# Altium schematic symbol library elems.SchLib: 43 symbols
Pins are listed as number, name and electrical type; pins without a type are passive.

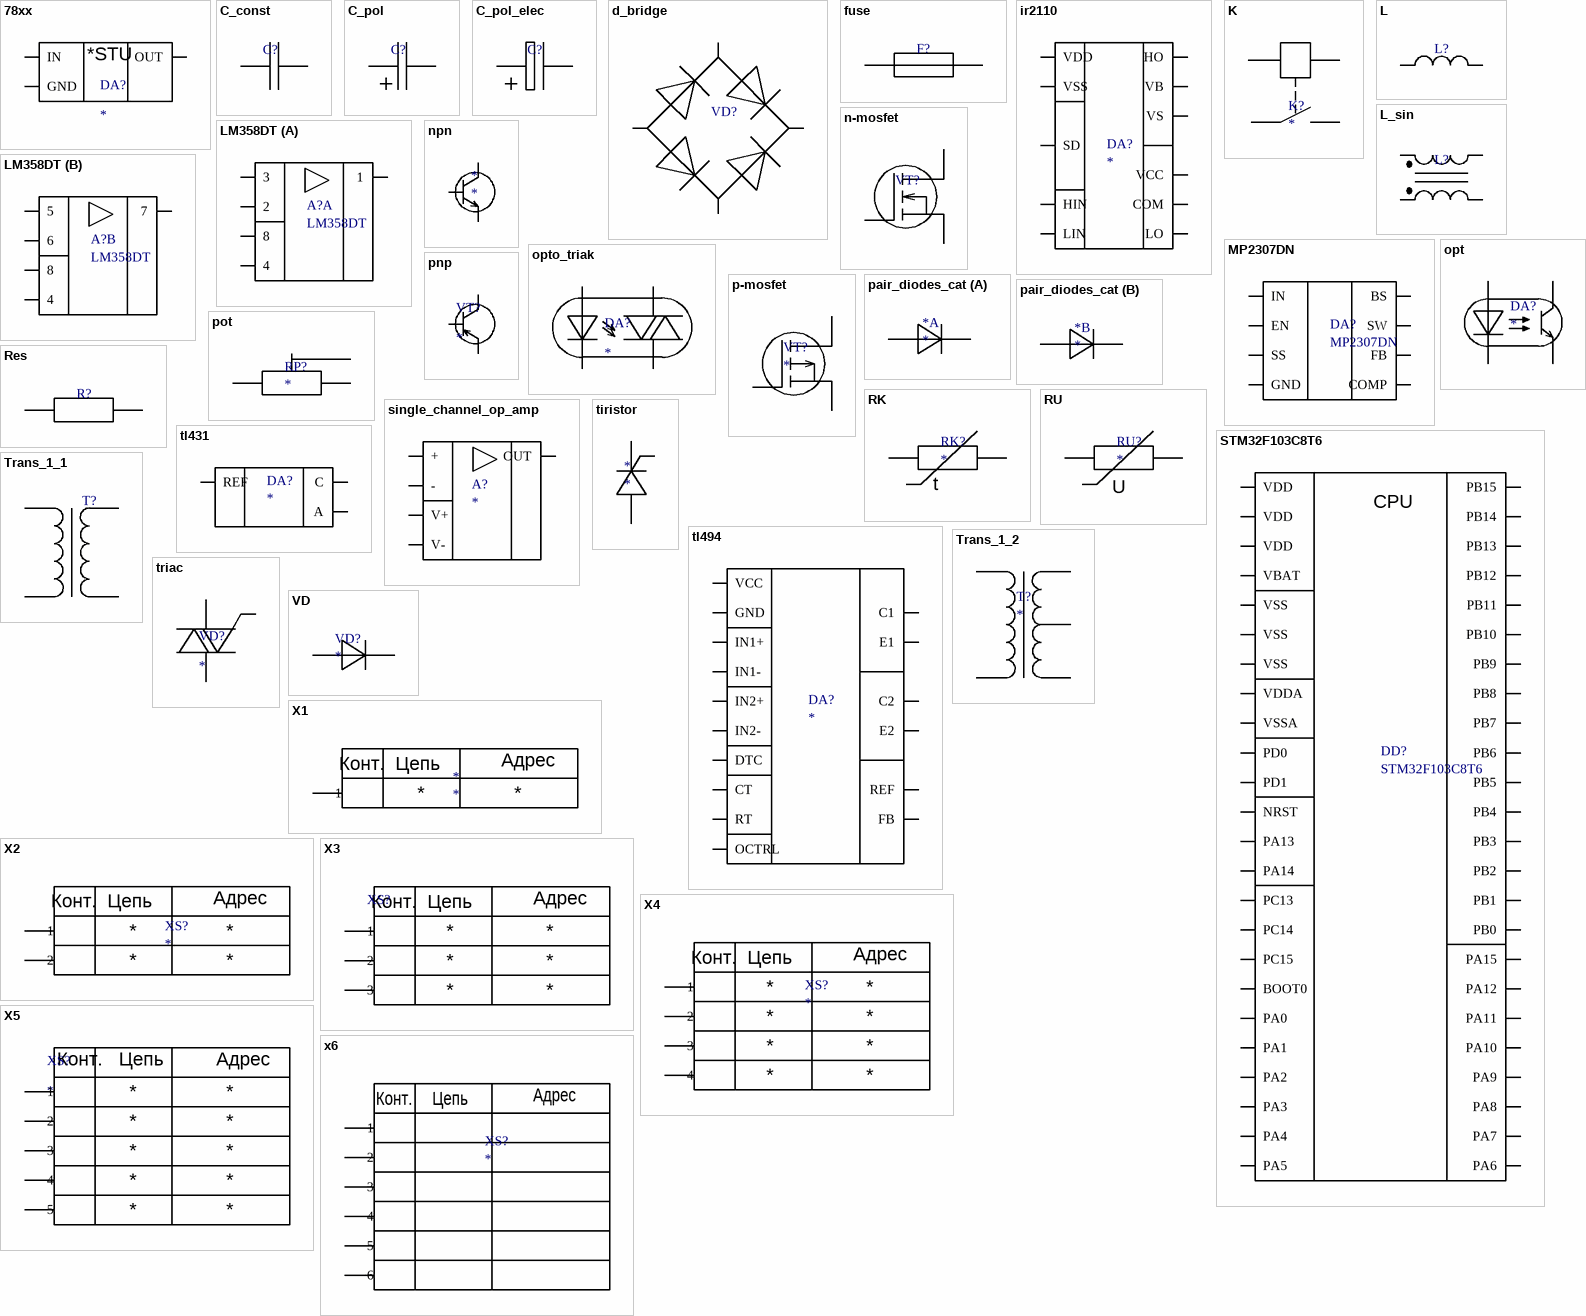
[diagram p0: symbols 78xx to x6]

## 78xx
designator DA?
pins: 1 IN, 2 OUT, 3 GND
text: *STU

## C_const
designator C?  (value not drawn)
pins: 1, 2

## C_pol
designator C?  (value not drawn)
pins: 1, 2

## C_pol_elec
designator C?  (value not drawn)
pins: 1, 2

## d_bridge
designator VD?  (value not drawn)
pins: 1, 2, 3, 4

## fuse
designator F?  (value not drawn)
pins: 1, 2

## ir2110
designator DA?
pins: 1 LO, 2 COM, 3 VCC, 6 VS, 7 VB, 8 HO, 11 VDD, 12 HIN, 13 SD, 14 LIN, 15 VSS

## K
designator K?
pins: 1, 2, 3, 4

## L
designator L?  (value not drawn)
pins: 1, 2

## L_sin
designator L?  (value not drawn)
pins: 1, 2, 3, 4

## LM358DT
designator A?
part A pins: 1, 2, 3, 4, 8
part B pins: 4, 5, 6, 7, 8

## MP2307DN
designator DA?
pins: 1 BS, 2 IN, 3 SW, 4 GND, 5 FB, 6 COMP, 7 EN, 8 SS

## n-mosfet
designator VT?  (value not drawn)
pins: 1, 2, 3

## npn
designator *
pins: 1 b, 2 c, 3 e

## opt
designator DA?
pins: 1, 2, 3, 4

## opto_triak
designator DA?
pins: 1, 2, 3, 4

## p-mosfet
designator VT?
pins: 1, 2, 3

## pair_diodes_cat
designator *
part A pins: 1 A1, 2 C
part B pins: 3 A2, C 2

## pnp
designator VT?
pins: 1 b, 2 c, 3 e

## pot
designator RP?
pins: 1, 2, 3

## Res
designator R?  (value not drawn)
pins: 1, 2 6

## RK
designator RK?
pins: 1, 2
text: t

## RU
designator RU?
pins: 1, 2
text: U

## single_channel_op_amp
designator A?
pins: 1 +, 2 V-, 3 -, 4 OUT, 5 V+

## STM32F103C8T6
designator DD?
pins: 1 VBAT, 2 PC13, 3 PC14, 4 PC15, 5 PD0, 6 PD1, 7 NRST, 8 VSSA, 9 VDDA, 10 PA0, 11 PA1, 12 PA2, 13 PA3, 14 PA4, 15 PA5, 16 PA6, 17 PA7, 18 PB0, 19 PB1, 20 PB2, 21 PB10, 22 PB11, 23 VSS, 24 VDD, 25 PB12, 26 PB13, 27 PB14, 28 PB15, 29 PA8, 30 PA9, 31 PA10, 32 PA11, 33 PA12, 34 PA13, 35 VSS, 36 VDD, 37 PA14, 38 PA15, 39 PB3, 40 PB4, 41 PB5, 42 PB6, 43 PB7, 44 BOOT0, 45 PB8, 46 PB9, 47 VSS, 48 VDD
text: CPU

## tiristor
designator *
pins: 1, 2, 3

## tl431
designator DA?
pins: 1 C, 2 REF, 3 A

## tl494
designator DA?
pins: 1 IN1+, 2 IN1-, 3 FB, 4 DTC, 5 CT, 6 RT, 7 GND, 8 C1, 9 E1, 10 E2, 11 C2, 12 VCC, 13 OCTRL, 14 REF, 15 IN2-, 16 IN2+

## Trans_1_1
designator T?  (value not drawn)
pins: 1, 2, 3, 4

## Trans_1_2
designator T?
pins: 1, 2, 3, 4, 5

## triac
designator VD?
pins: 1, 2, 3

## VD
designator VD?
pins: 1, 2

## X1
designator *
address: *; circuit: *
pins: 1
text: Конт.; Цепь; Адрес

## X2
designator XS?
circuit2: *; circuit1: *; =address2: *; =address1: *
pins: 1, 2
text: Конт.; Цепь; Адрес

## X3
designator XS?
circuit1: *; circuit2: *; circuit3: *; =address1: *; =address2: *; =address3: *
pins: 1, 2, 3
text: Конт.; Цепь; Адрес

## X4
designator XS?
circuit2: *; circuit3: *; circuit1: *; circuit4: *; =address4: *; =address3: *; =address2: *; =address1: *
pins: 1, 2, 3, 4
text: Конт.; Цепь; Адрес

## X5
designator XS?
cirtuit5: *; circuit4: *; circuit3: *; circuit2: *; circuit1: *; =address5: *; =address4: *; =address3: *; =address2: *; =address1: *
pins: 1, 2, 3, 4, 5
text: Конт.; Цепь; Адрес

## x6
designator XS?
pins: 1, 2, 3, 4, 5, 6
text: Конт.; Цепь; Адрес

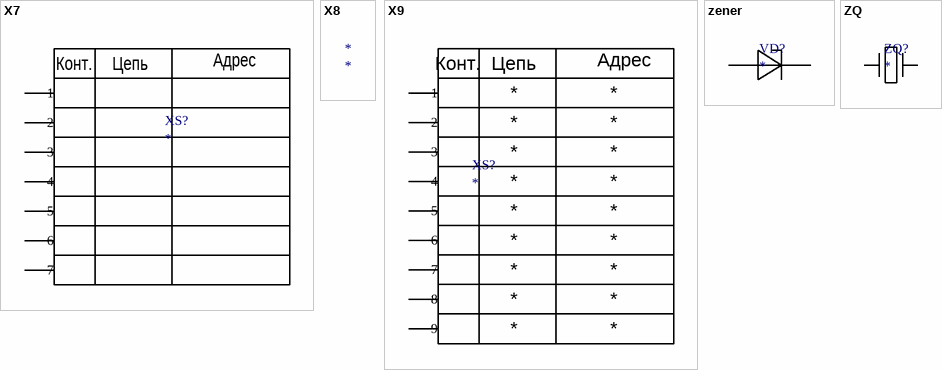
[diagram p1: symbols X7 to ZQ]

## X7
designator XS?
pins: 1, 2, 3, 4, 5, 6, 7
text: Конт.; Цепь; Адрес

## X8
designator *

## X9
designator XS?
circtuit9: *; circtuit8: *; circtuit7: *; circtuit6: *; circtuit5: *; circtuit4: *; circtuit3: *; circtuit2: *; circtuit1: *; =address9: *; =address8: *; =address7: *; =address5: *; =address6: *; =address4: *; =address3: *; =address2: *; =address1: *
pins: 1, 2, 3, 4, 5, 6, 7, 8, 9
text: Конт.; Цепь; Адрес

## zener
designator VD?
pins: 1, 2

## ZQ
designator ZQ?
pins: 1, 2